# EAGLE library part CMU-ARTFAB_TP4056-CHIP (library piezo-preamp-tickler_V2-RevG)
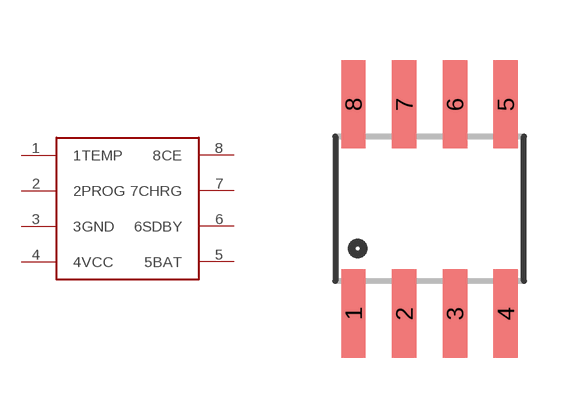
[diagram p3: symbol with the pads of CMU-ARTFAB_SO08; footprint CMU-ARTFAB_SO08]

Designator prefix -

## CMU-ARTFAB_TP4056-CHIP  [CMU-ARTFAB_SO08]
1  1TEMP
2  2PROG
3  3GND
4  4VCC
5  5BAT
6  6SDBY
7  7CHRG
8  8CE

## Footprint CMU-ARTFAB_SO08 (pad centres in mm)
Small Outline Package Fits JEDEC packages (narrow SOIC-8)
smd 0.61 x 2.21: 1 -1.905,-2.616; 2 -0.635,-2.616; 3 0.635,-2.616; 4 1.905,-2.616; 5 1.905,2.616; 6 0.635,2.616; 7 -0.635,2.616; 8 -1.905,2.616